# Altium schematic symbol library WS2812B.SchLib: 1 symbol
Pins are listed as number, name and electrical type; pins without a type are passive.

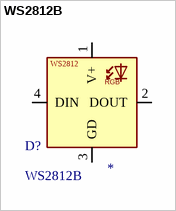
[diagram p0: symbol WS2812B]

## WS2812B
designator D?
-25℃~+80℃ Positive post RGB 120° SMD3528-4P  Light Emitting Diodes (LED) ROHS; LCSC: *
footprint WS2812B
pins: 1 V+, 2 DOUT, 3 GD, 4 DIN
text: WS2812; RGB